# Altium footprint library YS_STM32f103.PcbLib: 56 footprints (part 1 of 4)
Each footprint in its own frame and in the unit in brackets; x right, y up, seen from the top. Pads: shape width x height; smd on the part's side, far side on the other; paste and mask are expansions set on the pad; w line width, h text height; cw(c..) or ccw(c..) is an arc to the next point about the centre after c.
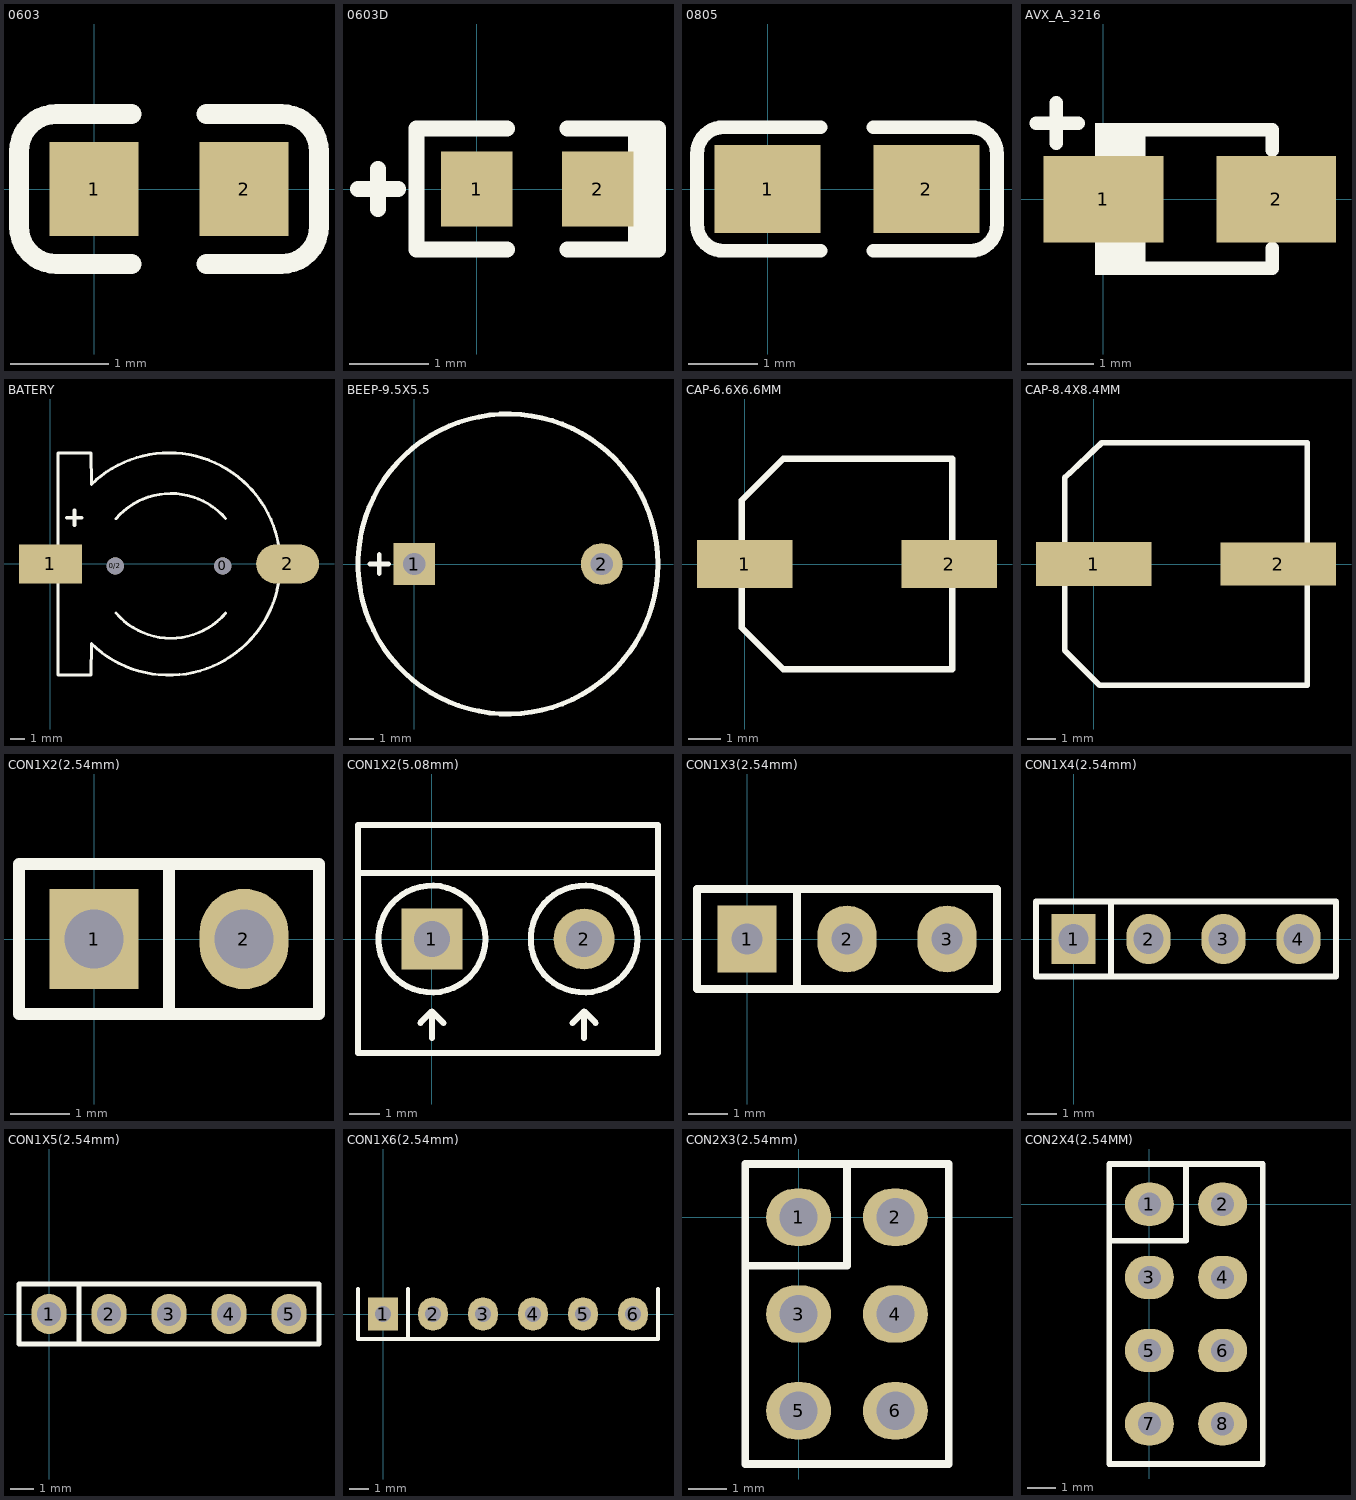
[diagram p0: the footprints below, top view; thin cyan lines are the x and y axes]

## 0603 [mm]
pads (2):
  rect 0.9x0.95 smd: 1(0,0) 2(1.524,0)
Top Overlay:
  lines w0.2: 0.381,-0.762 -0.381,-0.762 cw(c-0.381,-0.381) -0.762,-0.381 -0.762,0.381 cw(c-0.381,0.381) -0.381,0.762 0.381,0.762 ; 1.143,-0.762 1.905,-0.762 ccw(c1.905,-0.381) 2.286,-0.381 2.286,0.381 ccw(c1.905,0.381) 1.905,0.762 1.143,0.762

## 0603D [mm]
pads (2):
  rect 0.9x0.95 smd: 1(0,0) 2(1.524,0)
Top Overlay:
  rectangle: 1.905,-0.762 2.286,0.762
  lines w0.2: -1.499,0 -0.991,0 ; -1.245,-0.254 -1.245,0.254 ; 0.381,-0.762 -0.762,-0.762 -0.762,0.762 0.381,0.762 ; 1.143,-0.762 2.286,-0.762 2.286,0.762 1.143,0.762

## 0805 [mil]
pads (2):
  rect 60x50 smd: 1(0,0) 2(90,0)
Top Overlay:
  lines w7.87: 30,-35 -25,-35 cw(c-25,-20) -40,-20 -40,20 cw(c-25,20) -25,35 30,35 ; 60,-35 115,-35 ccw(c115,-20) 130,-20 130,20 ccw(c115,20) 115,35 60,35

## AVX_A_3216 [mm]
pads (2):
  rect 1.8x1.3 smd: 1(0,0) 2(2.6,0)
Top Overlay:
  rectangle: -0.127,-1.143 0.635,-0.635
  rectangle: -0.127,0.635 0.635,1.143
  lines w0.203: -1.016,1.143 -0.381,1.143 ; -0.711,0.838 -0.711,1.448 ; 0.127,1.041 2.54,1.041 2.54,0.737 ; 0.203,-1.041 2.54,-1.041 2.54,-0.737

## BATERY [mil]
pads (4):
  round 46 hole 46: 0(465,-5) 0/2(175,-5)
  rect 169.29x106.3 smd: 1(0,0)
  oval 169.29x106.3 smd: 2(640,0)
Top Overlay:
  lines w7.87: 110.38,-214.61 110,-300 20,-300 20,0 20,300 110,300 110.38,214.61 ; 110.48,-214.71 ccw(c320,0) 618.19,-32.92 ; 110.48,214.71 cw(c320,0) 320,300 cw(c320,0) 618.19,32.92 ; 176.75,122.07 cw(c325,-5) 472.55,122.88 ; 177.11,-132.49 ccw(c325,-5) 472.89,-132.49
  lines w10: 45,125 85,125 ; 65,105 65,145

## BEEP-9.5X5.5 [mm]
pads (2):
  rect 1.7x1.7 hole 0.9: 1(0,0)
  round 1.7 hole 0.9: 2(7.62,0)
Top Overlay:
  circle w0.2: c3.81,0 r6.096
  lines w0.2: -1.803,0 -1.041,0 ; -1.422,-0.381 -1.422,0.381

## CAP-6.6X6.6MM [mm]
pads (2):
  rect 3x1.5 smd: 1(0,0) 2(6.4,0)
Top Overlay:
  lines w0.2: -0.1,-2 -0.1,2 1.2,3.3 6.5,3.3 6.5,-3.3 1.2,-3.3 -0.1,-2

## CAP-8.4X8.4MM [mm]
pads (2):
  rect 4x1.524 smd: 1(0,0)
  rect 4x1.5 smd: 2(6.4,0)
Top Overlay:
  lines w0.2: -1,-3 -1,3 0.28,4.2 7.4,4.2 7.4,-4.2 0.2,-4.2 -1,-3

## CON1X2(2.54mm) [mm]
pads (2):
  rect 1.5x1.7 hole 1: 1(0,0)
  oval 1.5x1.7 hole 1: 2(2.54,0)
Top Overlay:
  lines w0.2: 1.27,-1.27 1.27,1.27 ; -1.27,-1.27 3.81,-1.27 3.81,1.27 -1.27,1.27 -1.27,-1.27

## CON1X2(5.08mm) [mil]
pads (2):
  rect 80x80 hole 47.24: 1(0,0)
  round 80 hole 47.24: 2(200,0)
Top Overlay:
  circle w7.87: c0,0 r70.21
  circle w7.87: c200,0 r70.21
  lines w7.87: -97,86.61 297,86.61 ; -15,-110 0,-95 ; 0,-130 0,-95 ; 15,-110 0,-95 ; 185,-110 200,-95 ; 200,-130 200,-95 ; 215,-110 200,-95
  lines w8: -97,-149.61 296.85,-149.61 297,149.61 -97,149.61 -97,-149.61

## CON1X3(2.54mm) [mm]
pads (3):
  rect 1.5x1.7 hole 0.8: 1(0,0)
  oval 1.5x1.7 hole 0.8: 2(2.54,0) 3(5.08,0)
Top Overlay:
  lines w0.2: 1.27,-1.27 1.27,1.27 ; -1.27,-1.27 -1.27,1.27 6.35,1.27 6.35,-1.27 -1.27,-1.27

## CON1X4(2.54mm) [mm]
pads (4):
  rect 1.5x1.7 hole 1: 1(0,0)
  oval 1.5x1.7 hole 1: 2(2.54,0) 3(5.08,0) 4(7.62,0)
Top Overlay:
  lines w0.2: 1.27,-1.27 1.27,1.27 ; -1.27,-1.27 8.89,-1.27 8.89,1.27 -1.27,1.27 -1.27,-1.27

## CON1X5(2.54mm) [mm]
pads (5):
  oval 1.5x1.7 hole 1: 1(0,0) 2(2.54,0) 3(5.08,0) 4(7.62,0) 5(10.16,0)
Top Overlay:
  lines w0.2: 1.27,-1.27 1.27,1.27 ; -1.27,-1.27 11.43,-1.27 11.43,1.27 -1.27,1.27 -1.27,-1.27

## CON1X6(2.54mm) [mm]
pads (6):
  rect 1.5x1.7 hole 0.8: 1(0,0)
  oval 1.5x1.7 hole 0.8: 2(2.54,0) 3(5.08,0) 4(7.62,0) 5(10.16,0) 6(12.7,0)
Top Overlay:
  lines w0.2: -1.27,1.27 -1.27,-1.27 13.97,-1.27 13.97,1.27 ; 1.27,-1.27 1.27,1.27

## CON2X3(2.54mm) [mm]
pads (6):
  oval 1.7x1.5 hole 1: 1(0,0) 2(2.54,0) 3(0,-2.54) 4(2.54,-2.54) 5(0,-5.08) 6(2.54,-5.08)
Top Overlay:
  lines w0.2: -1.397,-1.27 1.27,-1.27 1.27,1.397 ; -1.397,-6.477 3.937,-6.477 3.937,1.397 -1.397,1.397 -1.397,-6.477

## CON2X4(2.54MM) [mm]
pads (8):
  oval 1.7x1.5 hole 0.8: 1(0,0) 2(2.54,0) 3(0,-2.54) 4(2.54,-2.54) 5(0,-5.08) 6(2.54,-5.08) 7(0,-7.62) 8(2.54,-7.62)
Top Overlay:
  lines w0.2: -1.397,-1.27 1.27,-1.27 1.27,1.397 ; -1.397,-9.017 3.937,-9.017 3.937,1.397 -1.397,1.397 -1.397,-9.017